# Altium footprint library FiberOptic_PCB.PcbLib: 56 footprints (part 1 of 4)
Each footprint in its own frame and in the unit in brackets; x right, y up, seen from the top. Pads: shape width x height; smd on the part's side, far side on the other; paste and mask are expansions set on the pad; w line width, h text height; cw(c..) or ccw(c..) is an arc to the next point about the centre after c.
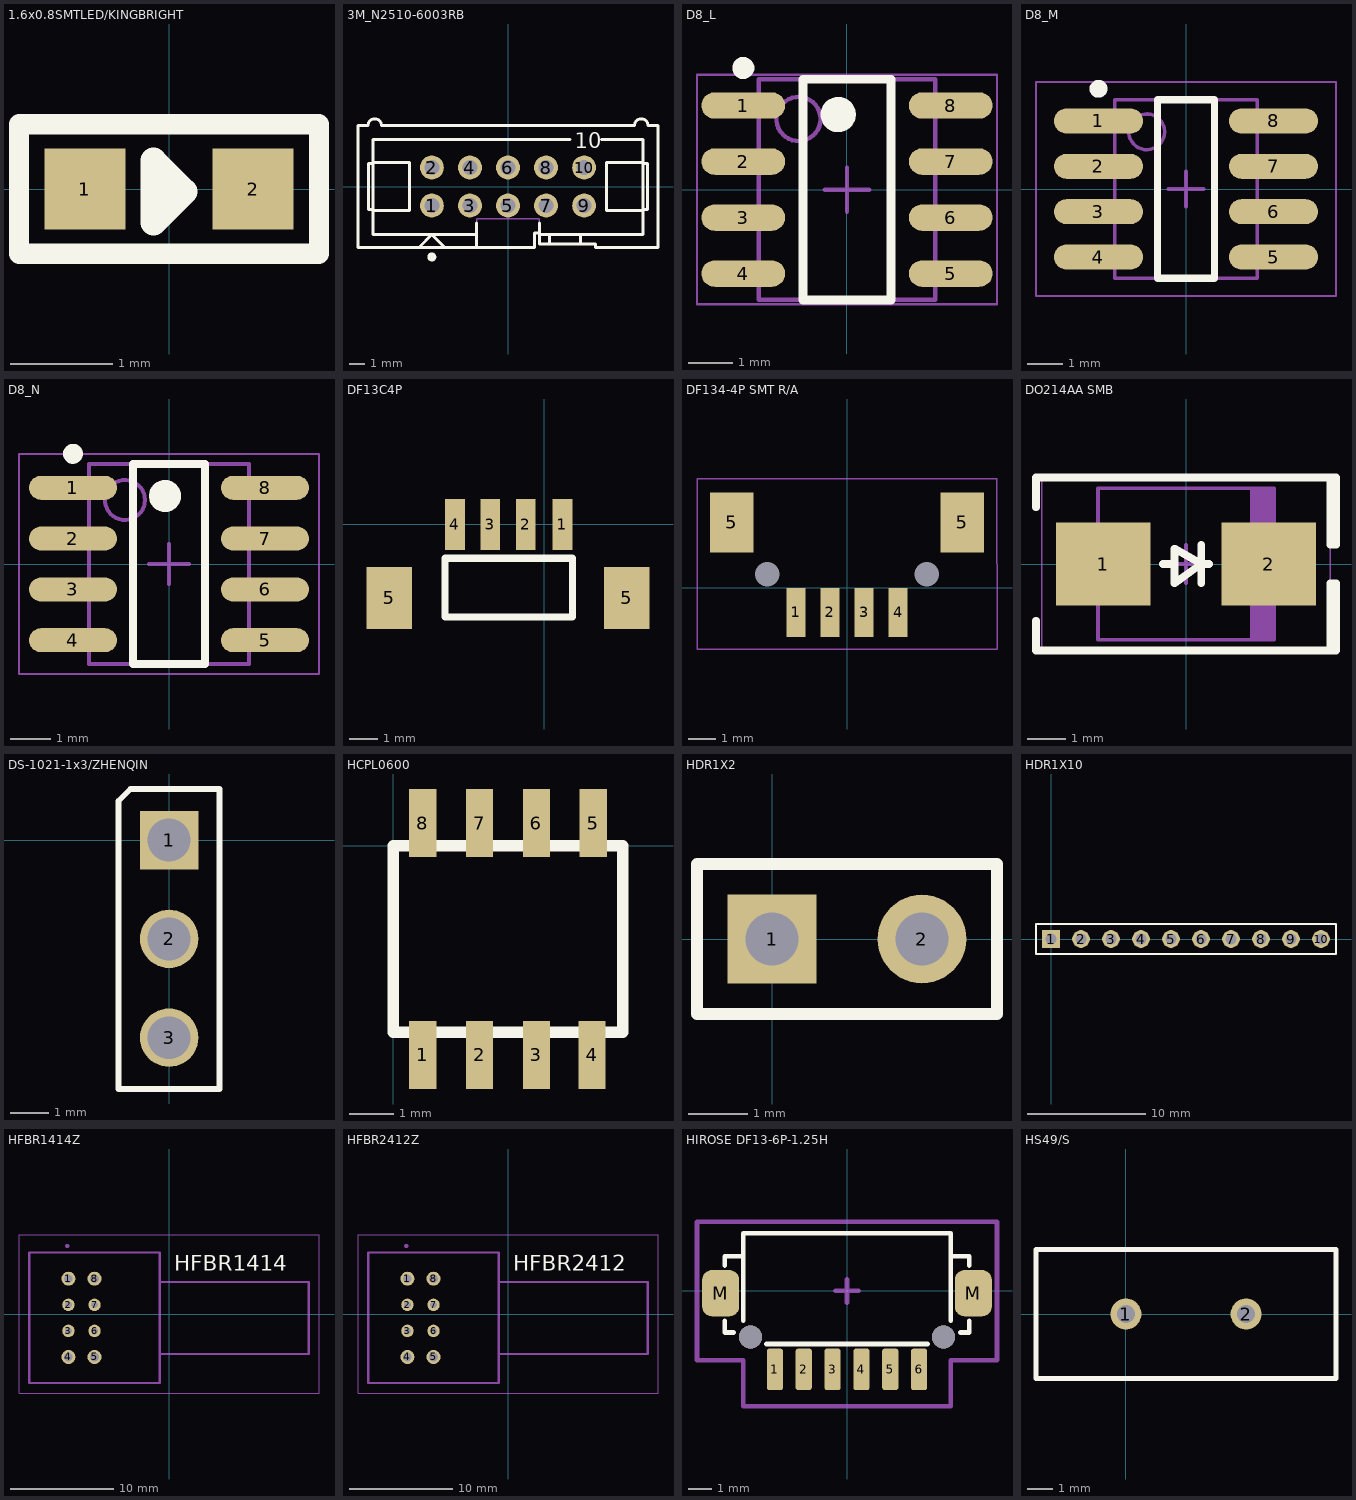
[diagram p0: the footprints below, top view; thin cyan lines are the x and y axes]

## 1.6x0.8SMTLED/KINGBRIGHT [mm]
pads (2):
  rect 0.8x0.8 smd: 1(-0.825,0) 2(0.825,0)
Top Overlay:
  lines w0.2: -1.473,-0.635 -1.473,0.148 -1.473,0.635 1.473,0.635 1.473,-0.635 -1.473,-0.635
  lines w0.254: -0.152,-0.33 -0.152,0.279 0.152,-0.025 -0.152,-0.33
3D body: height 0.7, standoff 0, extent -0.2,-0.325 0.2,0.325
3D body: height 0.3, standoff 0, extent -0.8,-0.4 0.8,0.4

## 3M_N2510-6003RB [mm] "10 Contacts - Straight .100\" x .100\" Low Profile Four-Wall Header (Solder Tail 3.94mm)"
height 10.03
pads (10):
  round 1.6 hole 1: 1(-5.08,-1.27) 2(-5.08,1.27) 3(-2.54,-1.27) 4(-2.54,1.27) 5(0,-1.27) 6(0,1.27) 7(2.54,-1.27) 8(2.54,1.27) 9(5.08,-1.27) 10(5.08,1.27)
Top Overlay:
  circle w0.3: c-5.08,-4.699 r0.15
  lines w0.2: -8.992,-1.603 -6.579,-1.603 -6.579,1.603 -8.992,1.603 ; -8.992,-1.524 -9.296,-1.524 -9.296,1.524 -8.992,1.524 ; -5.944,-4.064 -5.08,-3.2 -4.216,-4.064 ; -2.096,-4.064 -2.096,-2.438 ; -2.096,-3.2 -8.992,-3.2 -8.992,3.15 4.128,3.15 ; 2.095,-3.2 8.992,-3.2 8.992,3.15 6.223,3.15 ; 2.095,-3.102 1.778,-3.102 1.778,-4.064 -10.008,-4.064 -10.008,4.064 -9.347,4.064 cw(c-8.89,4.064) -8.433,4.064 8.433,4.064 cw(c8.89,4.064) 9.347,4.064 10.008,4.064 10.008,-4.064 5.842,-4.064 5.842,-3.835 2.095,-3.835 2.095,-2.438 ; 2.769,-3.835 2.769,-3.2 ; 4.851,-3.835 4.851,-3.2 ; 8.992,-1.603 6.579,-1.603 6.579,1.603 8.992,1.603 ; 8.992,-1.524 9.296,-1.524 9.296,1.524 8.992,1.524
  text "10" at 4.445,2.54 h1.02
Mechanical 14:
  lines w0.1: -8.992,-1.603 -6.579,-1.603 -6.579,1.603 -8.992,1.603 ; -8.992,-1.524 -9.296,-1.524 -9.296,1.524 -8.992,1.524 ; -5.944,-4.064 -5.08,-3.2 -4.216,-4.064 ; -2.096,-4.064 -2.096,-2.159 2.095,-2.159 2.095,-3.835 5.842,-3.835 5.842,-4.064 10.008,-4.064 10.008,4.064 9.347,4.064 ccw(c8.89,4.064) 8.433,4.064 -8.433,4.064 ccw(c-8.89,4.064) -9.347,4.064 -10.008,4.064 -10.008,-4.064 1.778,-4.064 1.778,-3.102 2.095,-3.102 ; -2.096,-3.2 -8.992,-3.2 -8.992,3.15 4.128,3.15 ; 2.095,-3.2 8.992,-3.2 8.992,3.15 6.223,3.15 ; 2.769,-3.835 2.769,-3.2 ; 4.851,-3.835 4.851,-3.2 ; 8.992,-1.603 6.579,-1.603 6.579,1.603 8.992,1.603 ; 8.992,-1.524 9.296,-1.524 9.296,1.524 8.992,1.524
  text "10" at 4.445,2.54 h1.02
3D body "3M_N2510-6003RB.stp": height 9.65, standoff -3.1, extent -10.008,-4.064 10.008,4.572

## D8_L [mm] "SOIC, 8-Leads, Body 4.9x3.9mm, Pitch 1.27mm, IPC High Density"
height 1.75
pads (8):
  oval 1.9x0.6 smd: 1(-2.35,1.905) 2(-2.35,0.635) 3(-2.35,-0.635) 4(-2.35,-1.905) 5(2.35,-1.905) 6(2.35,-0.635) 7(2.35,0.635) 8(2.35,1.905)
Top Overlay:
  circle w0.25: c-2.35,2.755 r0.125
  circle w0.4: c-0.2,1.7 r0.2
  lines w0.2: -1,-2.5 -1,2.5 1,2.5 1,-2.5 -1,-2.5
Mechanical 13:
  circle w0.1: c-1.1,1.6 r0.5
  lines w0.1: -2,-2.5 -2,2.5 2,2.5 2,-2.5 -2,-2.5
Mechanical 15:
  lines w0.05: -3.4,-2.6 -3.4,2.6 3.4,2.6 3.4,-2.6 -3.4,-2.6
  lines w0.1: -0.5,0 0.5,0 ; 0,-0.5 0,0.5
3D body: height 1.75, standoff 0.1, extent -2,-2.5 2,2.5

## D8_M [mm] "SOIC, 8-Leads, Body 4.9x3.9mm, Pitch 1.27mm, IPC Low Density"
height 1.75
pads (8):
  oval 2.5x0.7 smd: 1(-2.45,1.905) 2(-2.45,0.635) 3(-2.45,-0.635) 4(-2.45,-1.905) 5(2.45,-1.905) 6(2.45,-0.635) 7(2.45,0.635) 8(2.45,1.905)
Top Overlay:
  circle w0.25: c-2.45,2.805 r0.125
  lines w0.2: -0.8,-2.5 -0.8,2.5 0.8,2.5 0.8,-2.5 -0.8,-2.5
Mechanical 13:
  circle w0.1: c-1.1,1.6 r0.5
  lines w0.1: -2,-2.5 -2,2.5 2,2.5 2,-2.5 -2,-2.5
Mechanical 15:
  lines w0.05: -4.2,-3 -4.2,3 4.2,3 4.2,-3 -4.2,-3
  lines w0.1: -0.5,0 0.5,0 ; 0,-0.5 0,0.5
3D body: height 1.75, standoff 0.1, extent -2,-2.5 2,2.5

## D8_N [mm] "SOIC, 8-Leads, Body 4.9x3.9mm, Pitch 1.27mm, IPC Medium Density"
height 1.75
pads (8):
  oval 2.2x0.6 smd: 1(-2.4,1.905) 2(-2.4,0.635) 3(-2.4,-0.635) 4(-2.4,-1.905) 5(2.4,-1.905) 6(2.4,-0.635) 7(2.4,0.635) 8(2.4,1.905)
Top Overlay:
  circle w0.25: c-2.4,2.755 r0.125
  circle w0.4: c-0.1,1.7 r0.2
  lines w0.2: -0.9,-2.5 -0.9,2.5 0.9,2.5 0.9,-2.5 -0.9,-2.5
Mechanical 13:
  circle w0.1: c-1.1,1.6 r0.5
  lines w0.1: -2,-2.5 -2,2.5 2,2.5 2,-2.5 -2,-2.5
Mechanical 15:
  lines w0.05: -3.75,-2.75 -3.75,2.75 3.75,2.75 3.75,-2.75 -3.75,-2.75
  lines w0.1: -0.5,0 0.5,0 ; 0,-0.5 0,0.5
3D body: height 1.75, standoff 0.1, extent -2,-2.5 2,2.5

## DF13C4P [mm]
pads (6):
  rect 0.7x1.8 smd: 1(0.65,0) 2(-0.65,0) 3(-1.9,0) 4(-3.15,0)
  rect 1.6x2.2 smd: 5(-5.475,-2.6) 5(2.925,-2.6)
Top Overlay:
  lines w0.254: -3.5,-3.27 -3.5,-1.2 1,-1.2 1,-3.27 -3.5,-3.27

## DF134-4P SMT R/A [mm] "CONN HEADER 4POS 1.25MM R/A TIN"
pads (8):
  rect 0.7x1.8 smd: 1(-1.875,-0.9) 2(-0.625,-0.9) 3(0.625,-0.9) 4(1.875,-0.9)
  rect 1.6x2.2 smd: 5(-4.225,2.4) 5(4.225,2.4)
  round 0 hole 0.9: ""(-2.925,0.5) ""(2.925,0.5)
Mechanical 15:
  lines w0.05: -5.5,-2.25 -5.5,4 5.5,4 5.5,-2.25 -5.5,-2.25

## DO214AA SMB [mm] "Molded Diode, 2-Leads, Body 4.31x3.62mm, IPC Medium Density"
height 2.44
pads (2):
  rect 2.45x2.15 smd: 1(-2.15,0) 2(2.15,0)
Top Overlay:
  lines w0.2: -3.9,-1.475 -3.9,-2.25 3.9,-2.25 3.9,-0.5 3.75,-0.5 3.75,-2.25 ; -3.9,1.475 -3.9,2.25 3.9,2.25 3.9,0.5 3.75,0.5 3.75,2.25 ; -0.6,0 -0.3,0 ; 0.4,-0.5 0.4,0.5 ; 0.6,0 0.4,0 ; 0.4,0 -0.3,-0.5 -0.3,0.4 0.4,0
Mechanical 13:
  rectangle: 1.67,-1.97 2.285,1.97
  lines w0.1: -2.285,-1.97 -2.285,1.97 2.285,1.97 2.285,-1.97 -2.285,-1.97
Mechanical 15:
  lines w0.05: -3.75,-2.25 -3.75,2.25 3.75,2.25 3.75,-2.25 -3.75,-2.25
  lines w0.1: -0.5,0 0.5,0 ; 0,-0.5 0,0.5
3D body "SMB.STEP": height 2.4, standoff 0, extent -2.6,-1.799 2.6,1.8

## DS-1021-1x3/ZHENQIN [mm]
height 8.5
pads (3):
  rect 1.5x1.5 hole 1.1: 1(0,0)
  round 1.5 hole 1.1: 2(0,-2.54) 3(0,-5.08)
Top Overlay:
  lines w0.15: -1.3,-6.401 -1.3,1.005 -0.99,1.315 1.295,1.315 1.295,-6.401 -1.3,-6.401
3D body: height 10.5, standoff -2, extent -0.395,-5.495 0.395,-4.665
3D body: height 10.5, standoff -2, extent -0.395,-2.955 0.395,-2.125
3D body: height 10.5, standoff -2, extent -0.395,-0.415 0.395,0.415
3D body: height 10.5, standoff -2, extent -0.395,-5.495 0.395,-4.665
3D body: height 2.5, standoff 0, extent -0.88,-5.96 0.88,-4.21
3D body: height 2.5, standoff 0, extent -0.88,-3.42 0.88,-1.67
3D body: height 2.5, standoff 0, extent -0.88,-0.88 0.88,0.87
3D body: height 6, standoff 2.5, extent 0.42,-0.4 0.44,-0.38

## HCPL0600 [mil]
pads (8):
  rect 24x60 smd: 1(26,-184) 2(76,-184) 3(126,-184) 4(175,-184) 5(176,20) 6(126,20) 7(76,20) 8(26,20)
Top Overlay:
  lines w10: 0,-164 0,0 202,0 202,-164 0,-164
3D body: height 143, standoff 0, extent 0,-164 202,0

## HDR1X2 [mm] "Connector; Header; 2 Position"
pads (2):
  rect 1.5x1.5 hole 0.9: 1(0,0)
  round 1.5 hole 0.9: 2(2.54,0)
Top Overlay:
  lines w0.2: -1.27,-1.27 -1.27,1.27 3.81,1.27 3.81,-1.27 -1.27,-1.27

## HDR1X10 [mm] "Connector; Header; 10 Position"
pads (10):
  rect 1.5x1.5 hole 0.9: 1(0,0)
  round 1.5 hole 0.9: 2(2.54,0) 3(5.08,0) 4(7.62,0) 5(10.16,0) 6(12.7,0) 7(15.24,0) 8(17.78,0) 9(20.32,0) 10(22.86,0)
Top Overlay:
  lines w0.2: -1.27,-1.27 24.13,-1.27 24.13,1.27 0.635,1.27 -1.27,1.27 -1.27,-1.27

## HFBR1414Z [mm]
pads (8):
  round 1.365 / inner round 1.524 / far side round 1.365 hole 0.84: 1(-9.79,3.435) 4(-9.79,-4.185) 5(-7.25,-4.185) 8(-7.25,3.435)
  round 1.21 / inner round 1.524 / far side round 1.21 hole 0.66: 2(-9.79,0.895) 3(-9.79,-1.645) 6(-7.25,-1.645) 7(-7.25,0.895)
Top Overlay:
  text "HFBR1414" at 0.508,4.191 h1.52
Mechanical 8:
  lines w0.1: -14.6,-7.725 -14.6,7.725 14.6,7.725 14.6,-7.725 -14.6,-7.725
  lines w0.2: -0.9,-3.875 13.6,-3.875 13.6,3.125 -0.9,3.125 ; -13.6,-6.725 -13.6,5.975 -0.9,5.975 -0.9,-6.725 -13.6,-6.725
Mechanical 22:
  lines w0.1: -0.9,-3.875 13.6,-3.875 13.6,3.125 -0.9,3.125 ; -13.6,-6.725 -13.6,5.975 -0.9,5.975 -0.9,-6.725 -13.6,-6.725
  lines w0.2: -10,6.625 ccw(c-9.9,6.625) -9.8,6.625 ccw(c-9.9,6.625) -10,6.625
3D body: height 0.25, standoff 0, extent -15.113,7.493 -15.113,7.493
3D body: height 0.25, standoff 0, extent -14.351,0.254 -14.351,0.254
3D body: height 0.25, standoff 0, extent -15.621,3.429 -15.621,3.429
3D body "User Library-HFBR-x41xTxZ.step": height 10.2, standoff -3.6, extent -13.727,-6.731 13.473,5.965

## HFBR2412Z [mm]
pads (8):
  round 1.365 / inner round 1.524 / far side round 1.365 hole 0.84: 1(-9.79,3.435) 4(-9.79,-4.185) 5(-7.25,-4.185) 8(-7.25,3.435)
  round 1.21 / inner round 1.524 / far side round 1.21 hole 0.66: 2(-9.79,0.895) 3(-9.79,-1.645) 6(-7.25,-1.645) 7(-7.25,0.895)
Top Overlay:
  text "HFBR2412" at 0.508,4.191 h1.52
Mechanical 8:
  lines w0.1: -14.6,-7.725 -14.6,7.725 14.6,7.725 14.6,-7.725 -14.6,-7.725
  lines w0.2: -0.9,-3.875 13.6,-3.875 13.6,3.125 -0.9,3.125 ; -13.6,-6.725 -13.6,5.975 -0.9,5.975 -0.9,-6.725 -13.6,-6.725
Mechanical 22:
  lines w0.1: -0.9,-3.875 13.6,-3.875 13.6,3.125 -0.9,3.125 ; -13.6,-6.725 -13.6,5.975 -0.9,5.975 -0.9,-6.725 -13.6,-6.725
  lines w0.2: -10,6.625 ccw(c-9.9,6.625) -9.8,6.625 ccw(c-9.9,6.625) -10,6.625
3D body: height 0.25, standoff 0, extent -14.351,0.254 -14.351,0.254
3D body: height 0.25, standoff 0, extent -15.621,3.429 -15.621,3.429
3D body "User Library-HFBR-x41xTxZ.step": height 10.2, standoff -3.6, extent -13.727,-6.731 13.473,5.965

## HIROSE DF13-6P-1.25H [mm] "DF13 Series 1.25mm pitch miniature crimping connector single row"
height 3.6
pads (8):
  rrect30% 0.7x1.8 smd: 1(-3.125,-3.4) 2(-1.875,-3.4) 3(-0.625,-3.4) 4(0.625,-3.4) 5(1.875,-3.4) 6(3.125,-3.4)
  rrect50% 1.6x2 smd: M(-5.475,-0.1) M(5.475,-0.1)
via -4.175,-2 diameter 1 hole 1
via 4.175,-2 diameter 1 hole 1
Top Overlay:
  lines w0.2: -5.3,-1.3 -5.3,-1.8 -4.9,-1.8 ; -5.3,1.1 -5.3,1.5 -4.5,1.5 ; -4.5,-1.3 -4.5,2.5 -2.5,2.5 3.25,2.5 4.5,2.5 4.5,-1.3 ; -3.5,-2.3 -2.5,-2.3 -1.875,-2.3 1.8,-2.3 3.5,-2.3 ; 4.5,1.5 5.3,1.5 5.3,1.1 ; 4.9,-1.8 5.3,-1.8 5.3,-1.3
Mechanical 15:
  lines w0.2: -0.5,0 0.5,0 ; 0,-0.5 0,0.5 ; -6.5,-3 -6.5,2.5 -6.5,3 -2.5,3 5.25,3 6.5,3 6.5,2.5 6.5,-3 4.5,-3 4.5,-5 -2.5,-5 -4.5,-5 -4.5,-3 -6.5,-3
3D body "DF13-6P-1.25H_X_8A_S_H_X_97_S__.STEP": height 3.59, standoff -0.81, extent -6.075,-3.9 6.075,2.6

## HS49/S [mm]
pads (2):
  round 1.2 hole 0.7: 1(0,0) 2(4.65,0)
Top Overlay:
  lines w0.2: -3.475,-2.5 -3.475,2.5 8.125,2.5 8.125,0.25 8.125,-2.5 -3.475,-2.5